# EAGLE library part 74LVC4245APW (library Shared Libraries)
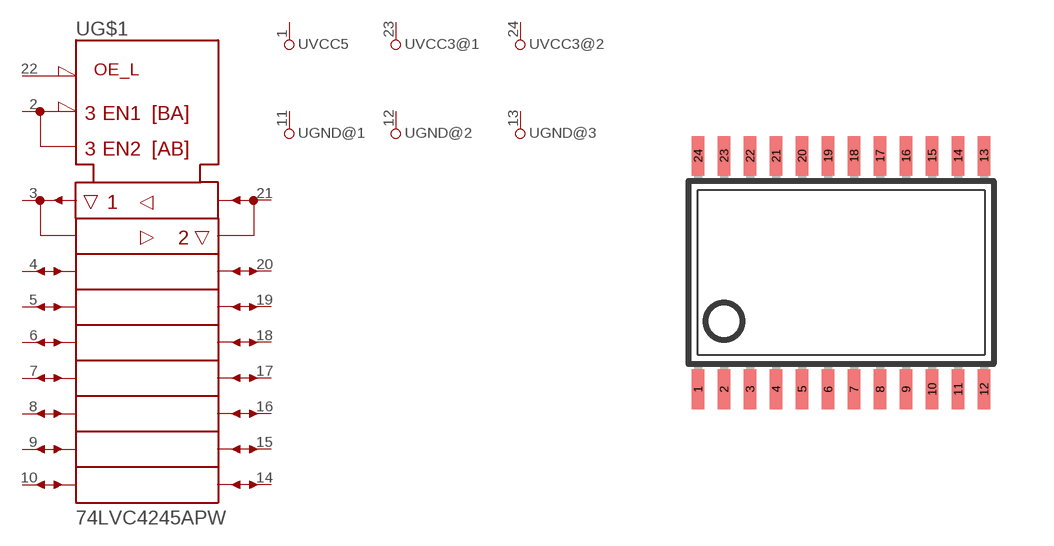
[diagram p8: symbol with the pads of TSSOP24; footprint TSSOP24]

Designator prefix -; gates G$1=245 VCC5=+UB VCC3@1=+UB VCC3@2=+UB GND@1=+UB GND@2=+UB GND@3=+UB

## 74LVC4245APW  [TSSOP24]
1  VCC5:1  pwr
2  G$1:DIR  in
3  G$1:A1
4  G$1:A2
5  G$1:A3
6  G$1:A4
7  G$1:A5
8  G$1:A6
9  G$1:A7
10  G$1:A8
11  GND@1:1  pwr
12  GND@2:1  pwr
13  GND@3:1  pwr
14  G$1:B8
15  G$1:B7
16  G$1:B6
17  G$1:B5
18  G$1:B4
19  G$1:B3
20  G$1:B2
21  G$1:B1
22  G$1:OE_L  in
23  VCC3@1:1  pwr
24  VCC3@2:1  pwr

## Footprint TSSOP24 (pad centres in mm)
Thin Shrink Small Outline Plastic 24 MAX3223-MAX3243.pdf
smd 0.305 x 0.991: 1 -3.575,-2.918; 2 -2.925,-2.918; 3 -2.275,-2.918; 4 -1.625,-2.918; 5 -0.975,-2.918; 6 -0.325,-2.918; 7 0.325,-2.918; 8 0.975,-2.918; 9 1.625,-2.918; 10 2.275,-2.918; 11 2.925,-2.918; 12 3.575,-2.918; 13 3.575,2.918; 14 2.925,2.918; 15 2.275,2.918; 16 1.625,2.918; 17 0.975,2.918; 18 0.325,2.918; 19 -0.325,2.918; 20 -0.975,2.918; 21 -1.625,2.918; 22 -2.275,2.918; 23 -2.925,2.918; 24 -3.575,2.918